# Altium schematic symbol library pulser.SchLib: 21 symbols
Pins are listed as number, name and electrical type; pins without a type are passive.

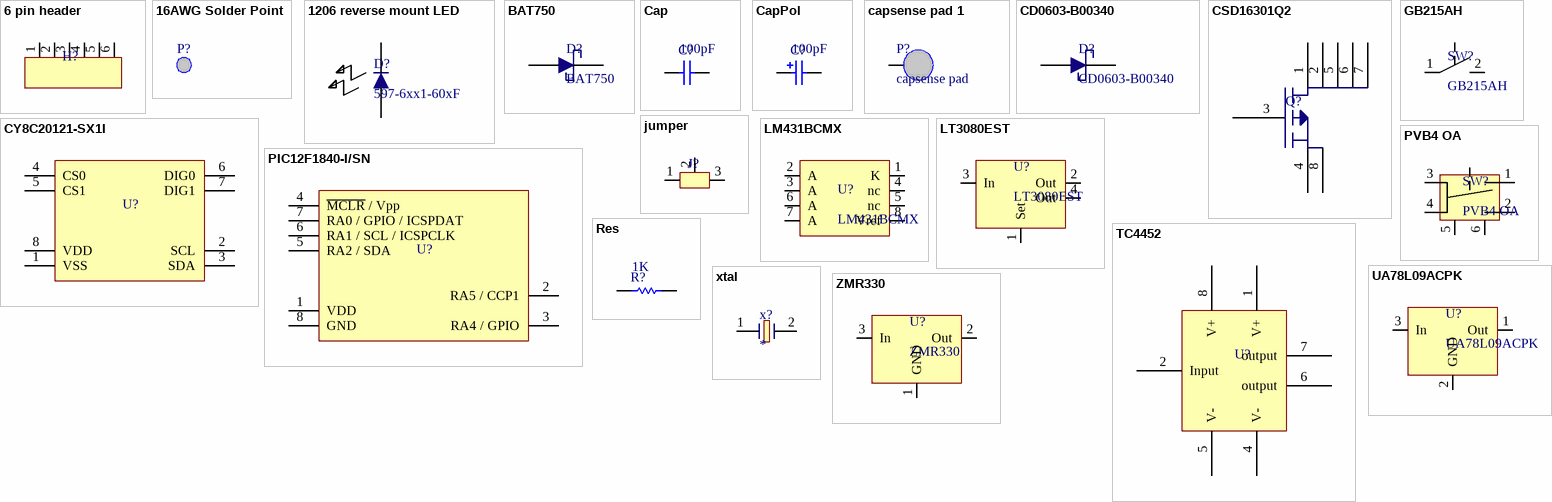
[diagram p0: symbols 6 pin header to ZMR330]

## 6 pin header
designator H?  (value not drawn)
6 Pin Header
footprint 6 pin header (6 pin 0.1" header)
pins: 1, 2, 3, 4, 5, 6

## 16AWG Solder Point
designator P?  (value not drawn)
footprint 16 AWG Solder Point (Solder Point for 16 AWG Wire)
pins: 1

## 1206 reverse mount LED
designator D?, comment 597-6xx1-60xF
Reverse Mount 1206 LED; Manufacturer: Dialight; PartNumber: 597-6xx1-60xF
footprint SMD1206 Rev Mount LED (1206 Reverse mount LED, 1.8mm hole)
pins: A, K

## BAT750
designator D?
Schottky Diode high current; Manufacturer: Diodes / Zetex; PartNumber: BAT750
footprint SOT23 - Diodes (Special SOT23 design for Diodes Part)
pins: 1 K, 2 A

## Cap
designator C?  value 100pF
Capacitor
pins: 1, 2

## CapPol
designator C?  value 100pF
Capacitor
pins: 1, 2

## capsense pad 1
designator P?, comment capsense pad
circular capsense pad
footprint capsense 1cm (1cm diameter capsense pad)
footprint capsense ruby 5.9mm (Capsense pad designed for use with ruby and rev mount LED)
footprint CAPSENSE RUBY (Hole for cabsense ruby)
pins: 1

## CD0603-B00340
designator D?
Schottky Diode; Manufacturer: Bourns; PartNumber: CD0603-B00340
footprint SMD0603 Polarized (0603 Surface Mount Chip)
pins: 1 K, 2 A

## CSD16301Q2
designator Q?  (value not drawn)
N Ch. MOSFET; Manufacturer: Texas Instruments; PartNumber: CSD16301Q2
footprint CSD16301Q2 (N ch MOSFET)
pins: 1, 2, 3, 4, 5, 6, 7, 8

## CY8C20121-SX1I
designator U?  (value not drawn)
Capsense Module, 2 button; PartNumber: CY8C20121-SX1IX; Manufacturer: Cypress
footprint 8 PIN SOIC (SOIC, 8-Leads)
pins: 1 VSS, 2 SCL, 3 SDA, 4 CS0, 5 CS1, 6 DIG0, 7 DIG1, 8 VDD

## GB215AH
designator SW?
SPST Normally Open Switch; PartNumber: GB125AH; Manufacturer: NKK Switches
footprint GB215AH (Through Hole Momentary Switch)
footprint GB215AH (Through Hole Momentary Switch)
pins: 1, 2

## jumper
designator J?  (value not drawn)
Three Pin Jumper
footprint 3 PIN HEADER (3 PIN 0.1" header)
pins: 1, 2, 3

## LM431BCMX
designator U?
Adjustable Voltage Reference; PartNumber: LM431ACMX; Manufacturer: Fairchild Semiconductor
footprint 8 PIN SOIC (SOIC, 8-Leads)
pins: 1 K, 2 A, 3 A, 4 nc, 5 nc, 6 A, 7 A, 8 Vref

## LT3080EST
designator U?
Adjustable Regulator, SOT-223 Package; Manufacturer: Linear Technologies; PartNumber: LT3080EST
footprint SOT233 (SOT223, 4-Leads including Tab)
pins: 1 Set, 2 Out, 3 In, 4 Out

## PIC12F1840-I/SN
designator U?  (value not drawn)
8 Bit RISC uController; Manufacturer: Microchip; PartNumber: PIC12F1840-I/SN
footprint 8 PIN SOIC (SOIC, 8-Leads)
pins: 1 VDD, 2 RA5 / CCP1, 3 RA4 / GPIO, 4 ~{MCLR} / Vpp, 5 RA2 / SDA, 6 RA1 / SCL / ICSPCLK, 7 RA0 / GPIO / ICSPDAT, 8 GND

## PVB4 OA
designator SW?
SPDT Momentary Switch; Manufacturer: C&K components; PartNumber: PVB4 OA
footprint PVB4 (PVB4 Switch)
pins: 1, 2, 3 C, 4 C, 5, 6

## Res
designator R?  value 1K
Resistor
pins: 1, 2

## TC4452
designator U?  (value not drawn)
MOSFET Gate Driver, Low Side, Non Inverting 13A max; PartNumber: TC4452VOA; Manufacturer: Microchip
footprint 8 PIN SOIC (SOIC, 8-Leads)
pins: 1 V+, 2 Input, 4 V-, 5 V-, 6 output, 7 output, 8 V+

## UA78L09ACPK
designator U?
9V linear fixed regulator, TI Part; Manufacturer: Texas Instruments; PartNumber: UA78L09ACPK
footprint SOT89-150P350X160-3N (SOT89, 3-Leads, Body 4.50x2.50mm, Pitch 1.50mm, Lead Span 3.5mm, IPC Medium Density)
pins: 1 Out, 2 GND, 3 In

## xtal
designator x?
ComponentLink2PartNumber: VT200F-6PF20PPM; ComponentLink1: Vendor; ComponentLink1URL: http://search.digikey.com/scripts/DkSearch/dksus.dll?lang=en&site=US&WT.z_homepage_link=hp_go_button&KeyWords=728-1000&x=22&y=24
footprint Model Name (Footprint not found)
footprint crystal (32.768KHZ)
pins: 1, 2

## ZMR330
designator U?
Diodes 3.3V LDO regulator, 50mA; PartNumber: ZMR330FTA; Manufacturer: Diodes
footprint SOT23 - Diodes (Special SOT23 design for Diodes Part)
pins: 1 GND, 2 Out, 3 In